# EAGLE library part 4030BP (library EW_IC_74_Logic)
2-input Exclusive Or. Category: Gates Manufacturer: Generic
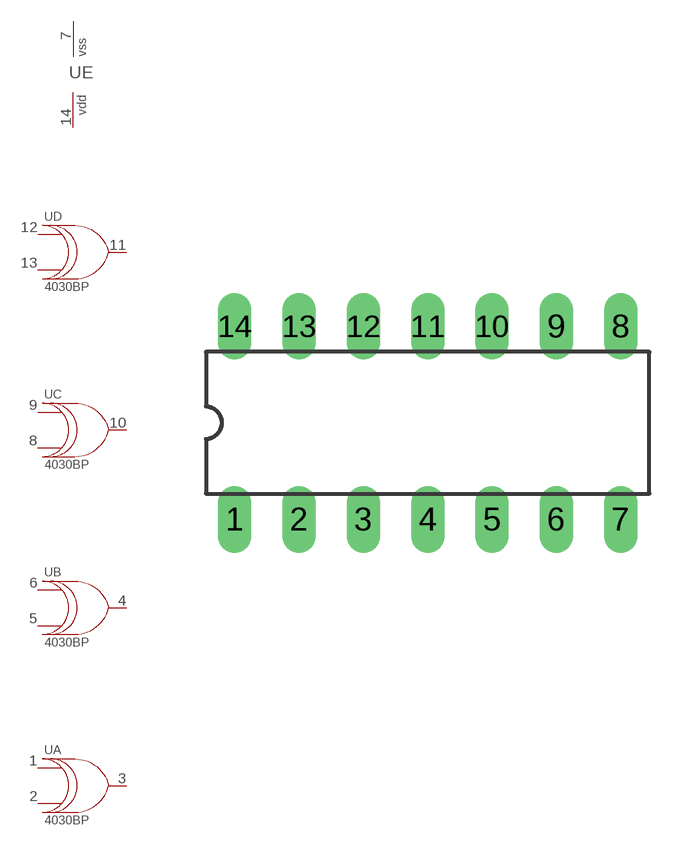
[diagram p93: symbol with the pads of DIL14; footprint DIL14]

Designator prefix U; gates A=XOR_2 B=XOR_2 C=XOR_2 D=XOR_2 E=PWRN_1

## 4030BP  [DIL14]
1  A:A  pwr
2  A:B  pwr
3  A:Y  pwr
4  B:Y  pwr
5  B:B  pwr
6  B:A  pwr
7  E:VSS  pwr
8  C:B  pwr
9  C:A  pwr
10  C:Y  pwr
11  D:Y  pwr
12  D:A  pwr
13  D:B  pwr
14  E:VDD  pwr

## Footprint DIL14 (pad centres in mm)
SOCKET Dual In Line
drill 0.813 long: 1 -7.62,-3.81; 2 -5.08,-3.81; 3 -2.54,-3.81; 4 0,-3.81; 5 2.54,-3.81; 6 5.08,-3.81; 7 7.62,-3.81; 8 7.62,3.81; 9 5.08,3.81; 10 2.54,3.81; 11 0,3.81; 12 -2.54,3.81; 13 -5.08,3.81; 14 -7.62,3.81